# EAGLE library part CON6P2R (library ads)
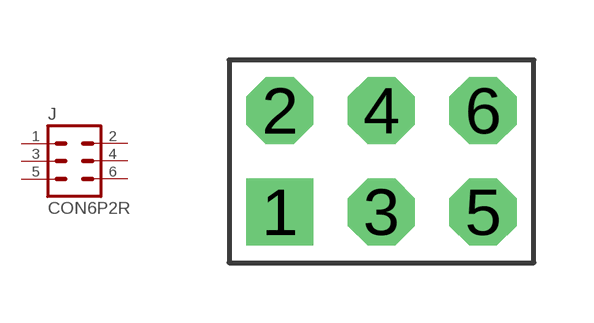
[diagram p7: symbol with the pads of S2012-06; footprint S2012-06]

Designator prefix J

## CON6P2R  [S2012-06]
1  1  pas
2  2  pas
3  3  pas
4  4  pas
5  5  pas
6  6  pas

## Footprint S2012-06 (pad centres in mm)
drill 1.016 pad 1.676 square: 1 0,0
drill 1.016 pad 1.676 octagon: 2 0,2.54; 3 2.54,0; 4 2.54,2.54; 5 5.08,0; 6 5.08,2.54